# Altium footprint library SMD Mechanical.PcbLib: 17 footprints (part 2 of 2)
Each footprint in its own frame and in the unit in brackets; x right, y up, seen from the top. Pads: shape width x height; smd on the part's side, far side on the other; paste and mask are expansions set on the pad; w line width, h text height; cw(c..) or ccw(c..) is an arc to the next point about the centre after c.
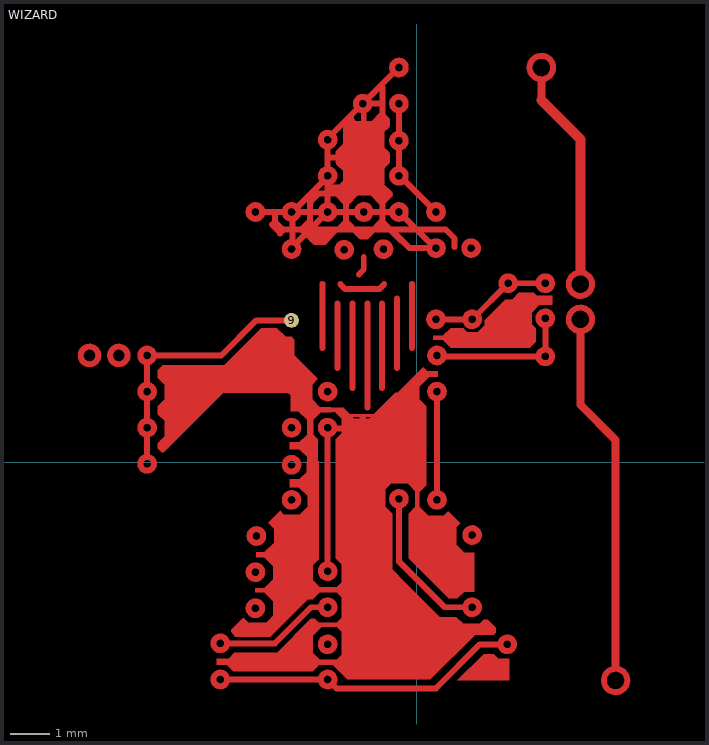
[diagram p1: the footprint, top view; thin cyan lines are the x and y axes]

## WIZARD [mil]
pads (1):
  round 15 smd mask+2: 9(-126.39,143.12)
Top Layer:
  circle w6: c125.58,398.04 r11.81
  circle w6: c200.38,-220.07 r11.81
  circle w6: c164.95,144.1 r11.81
  circle w6: c164.95,179.53 r11.81
  circle w6: c-330.13,107.68 r8.86
  circle w6: c-300.6,107.68 r8.86
  circle w6: c-73.34,214.27 r6.89
  circle w6: c-33.66,214.93 r6.89
  circle w6: c-89.97,288.79 r6.89
  circle w6: c-126.39,214.97 r6.89
  circle w6: c-162.8,252.37 r6.89
  circle w6: c-126.39,252.37 r6.89
  circle w6: c-89.97,252.37 r6.89
  circle w6: c-53.55,252.37 r6.89
  circle w6: c-18.12,252.37 r6.89
  circle w6: c19.28,215.95 r6.89
  circle w6: c54.72,215.95 r6.89
  circle w6: c19.28,252.37 r6.89
  circle w6: c-18.12,288.79 r6.89
  circle w6: c-18.12,324.22 r6.89
  circle w6: c-18.12,361.62 r6.89
  circle w6: c-18.12,398.04 r6.89
  circle w6: c-54.53,361.62 r6.89
  circle w6: c-89.97,325.2 r6.89
  circle w6: c129.52,106.7 r6.89
  circle w6: c129.52,145.09 r6.89
  circle w6: c129.52,180.52 r6.89
  circle w6: c92.12,180.52 r6.89
  circle w6: c55.7,144.1 r6.89
  circle w6: c19.28,144.1 r6.89
  circle w6: c91.13,-183.65 r6.89
  circle w6: c55.7,-146.25 r6.89
  circle w6: c-18.12,-37 r6.89
  circle w6: c20.27,-37.98 r6.89
  circle w6: c55.7,-73.42 r6.89
  circle w6: c-161.82,-74.4 r6.89
  circle w6: c-162.8,-110.82 r6.89
  circle w6: c-162.8,-147.24 r6.89
  circle w6: c-89.97,-109.84 r6.89
  circle w6: c-89.97,-146.25 r6.89
  circle w6: c-126.39,-37.98 r6.89
  circle w6: c-126.39,-2.55 r6.89
  circle w6: c-89.97,-183.65 r6.89
  circle w6: c-89.97,-219.09 r6.89
  circle w6: c-198.24,-219.09 r6.89
  circle w6: c-198.24,-182.67 r6.89
  circle w6: c-126.39,34.85 r6.89
  circle w6: c-89.97,34.85 r6.89
  circle w6: c-89.97,71.27 r6.89
  circle w6: c20.27,71.27 r6.89
  circle w6: c20.27,107.68 r6.89
  circle w6: c-272.05,-1.57 r6.89
  circle w6: c-272.05,34.85 r6.89
  circle w6: c-272.05,71.27 r6.89
  circle w6: c-272.05,107.68 r6.89
  rectangle: -77.17,299.61 -69.3,315.36
  rectangle: -72.25,276.98 -40.76,339.97
  region: -111,1 -111,-10 -119,-18 -128,-18 -128,-25 -119,-25 -110,-34 -110,-45 -118,-53 -134,-53 -138,-49 -150,-61 -144,-67 -144,-81 -154,-91 -162,-91 -162,-96 -154,-96 -145,-105 -145,-118 -154,-127 -163,-127 -163,-131 -154,-131 -145,-140 -145,-155 -152,-162 -170,-162 -175,-157 -187,-169 -187,-171 -183,-176 -148,-176 -110,-138 -105,-138 -98,-131 -86.59,-131 -86.59,-126 -98,-126 -105,-119 -105,-104 -99,-98 -99,1
  region: 21.25,91.94 10.43,91.94 6.49,95.87 -19.1,70.28 -19.1,-21.25 -9.26,-21.25 -1.39,-29.13 -1.39,-44.87 -8.27,-51.76 -8.27,-97.04 32.08,-137.39 40.94,-137.39 47.83,-130.5 57.67,-130.5 57.67,-91.13 47.83,-91.13 39.95,-83.26 39.95,-65.54 43.89,-61.61 32.08,-49.8 31.1,-49.8 27.16,-53.73 11.41,-53.73 2.55,-44.87 2.55,-30.11 9.44,-23.22 9.44,56.5 2.55,63.39 2.55,76.19 12.39,86.03 21.25,86.03
  region: 16.33,127.37 26.17,127.37 34.05,135.24 46.84,135.24 50.78,131.31 61.61,131.31 68.5,138.2 68.5,143.12 89.17,163.79 96.06,163.79 102.95,170.68 117.71,170.68 120.66,167.72 136.41,167.72 136.41,158.87 123.61,158.87 115.74,150.99 115.74,139.18 119.68,135.24 119.68,121.46 113.77,115.56 34.05,115.56 26.17,123.43 16.33,123.43
  region: -19.1,-113.77 23.22,-156.1 39.95,-156.1 46.84,-162.99 63.58,-162.99 67.51,-159.05 71.45,-159.05 79.32,-166.92 79.32,-171.84 77.36,-173.81 58.65,-173.81 13.38,-219.09 -19.1,-219.09
  region: 93.1,-198.42 82.28,-198.42 77.36,-193.5 67.51,-193.5 40.94,-220.07 93.1,-220.07
  region: -202,-198 -189.93,-198 -184,-192 -141,-192 -107,-158 -103,-158 -99,-162 -87,-162 -87,-166 -95.93,-166 -105,-175 -105,-192 -98,-199 -87.59,-199 -87.59,-204 -98.49,-204 -105,-211 -185.03,-210.81 -191.84,-204 -202,-204
  region: -141.15,135.24 -156.9,135.24 -194.3,97.84 -256.31,97.84 -261.23,92.92 -261.23,85.05 -254.34,78.16 -254.34,63.39 -261.23,56.5 -261.23,48.63 -254.34,41.74 -254.34,25.99 -261.23,19.1 -261.23,14.18 -257.29,10.24 -255.32,10.24 -195.28,70.28 -130.32,70.28 -127.37,67.33 -127.37,51.58 -119.5,51.58 -110.64,42.72 -110.64,27.96 -118.51,20.09 -128.35,20.09 -128.35,13.2 -118.51,13.2 -110.64,5.32 -110.64,-9.44 -118.51,-17.32 -128.35,-17.32 -128.35,-23.22 -118.51,-23.22 -110.64,-31.1 -99.81,-31.1 -99.81,23.04 -104.73,27.96 -104.73,42.72 -96.86,50.6 -86.03,50.6 -87.02,51.58 -87.02,55.52 -97.84,55.52 -105.72,63.39 -105.72,78.16 -99.81,84.06 -123.43,107.68 -123.43,123.43 -126.39,126.39 -132.29,126.39
  region: -63.39,28.94 -44.69,28.94 -44.69,39.77 -51.58,39.77 -51.58,45.68 -38.79,45.68 -38.79,34.85 -35.83,34.85 -35.83,48.63 -72.25,48.63 -72.25,34.85 -69.3,34.85 -69.3,45.68 -57.49,45.68 -57.49,39.77 -63.39,39.77
  region: -62.41,15.16 -62.41,4.34 -56.5,4.34 -56.5,-2.55 -68.31,-2.55 -68.31,8.27 -71.27,8.27 -71.27,-5.5 -56.5,-5.5 -56.5,-23.22 -71.27,-23.22 -71.27,-37.98 -68.31,-37.98 -68.31,-27.16 -56.5,-27.16 -56.5,-31.1 -62.41,-31.1 -62.41,-43.89 -43.71,-43.89 -43.71,-31.1 -50.6,-31.1 -50.6,-27.16 -37.8,-27.16 -37.8,-37.98 -34.85,-37.98 -34.85,-23.22 -50.6,-23.22 -50.6,-5.5 -34.85,-5.5 -34.85,8.27 -37.8,8.27 -37.8,-2.55 -50.6,-2.55 -50.6,4.34 -44.69,4.34 -44.69,15.16
  region: -62.41,-57.67 -62.41,-68.5 -56.5,-68.5 -56.5,-75.39 -68.31,-75.39 -68.31,-64.56 -71.27,-64.56 -71.27,-78.34 -56.5,-78.34 -56.5,-96.06 -71.27,-96.06 -71.27,-110.82 -68.31,-110.82 -68.31,-99.99 -56.5,-99.99 -56.5,-103.93 -62.41,-103.93 -62.41,-116.73 -43.71,-116.73 -43.71,-103.93 -50.6,-103.93 -50.6,-99.99 -37.8,-99.99 -37.8,-110.82 -34.85,-110.82 -34.85,-96.06 -50.6,-96.06 -50.6,-78.34 -34.85,-78.34 -34.85,-64.56 -37.8,-64.56 -37.8,-75.39 -50.6,-75.39 -50.6,-68.5 -44.69,-68.5 -44.69,-57.67
  region: -62.41,-130.5 -62.41,-141.33 -56.5,-141.33 -56.5,-148.22 -68.31,-148.22 -68.31,-137.39 -71.27,-137.39 -71.27,-151.17 -56.5,-151.17 -56.5,-168.89 -71.27,-168.89 -71.27,-183.65 -68.31,-183.65 -68.31,-172.83 -56.5,-172.83 -56.5,-176.76 -62.41,-176.76 -62.41,-189.56 -43.71,-189.56 -43.71,-176.76 -50.6,-176.76 -50.6,-172.83 -37.8,-172.83 -37.8,-183.65 -34.85,-183.65 -34.85,-168.89 -50.6,-168.89 -50.6,-151.17 -34.85,-151.17 -34.85,-137.39 -37.8,-137.39 -37.8,-148.22 -50.6,-148.22 -50.6,-141.33 -44.69,-141.33 -44.69,-130.5
  region: -81,-199 -76,-194 -76,-171 -81,-166 -87,-166 -87,-162 -81,-162 -76,-157 -76,-136 -81,-131 -87,-131 -87,-126 -81,-126 -76,-121 -76,-103 -82,-97 -82,23 -76,29 -76,44 -83,51 -87,51 -87,55 -74,55 -63,44 -48,44 -22,70 -19,70 -19,-21 -26,-21 -32,-27 -32,-45 -25,-52 -25,-108 -19,-114 -19,-219 -70,-219 -85,-204 -88,-204 -88,-199
  lines w6: -272.05,5.32 -272.05,25.99 ; -272.05,42.72 -272.05,63.39 ; -272.05,79.14 -272.05,99.81 ; -264.18,107.68 -197.25,107.68 -161.82,143.12 -126.39,143.12 ; -191.35,-219.09 -96.86,-219.09 ; -191.35,-182.67 -143.12,-182.67 -106.7,-146.25 -96.86,-146.25 ; -154.93,252.37 -134.26,252.37 ; -143.12,252.37 -143.12,241.54 -136.23,234.65 29.13,234.65 37.98,225.79 37.98,216.94 ; -135.24,234.65 -143.12,242.53 -146.07,239.57 ; -133.27,234.65 -134.26,234.65 -138.2,230.72 -138.2,231.7 -146.07,239.57 ; -125.4,221.86 -125.4,245.48 ; -121.46,219.89 -121.46,220.87 -94.89,247.45 ; -120.48,257.29 -94.89,282.88 ; -118.51,252.37 -97.84,252.37 ; -116.54,234.65 -115.56,234.65 -105.72,224.81 ; -115.56,233.67 -115.56,235.64 -107.68,243.51 ; -107.68,234.65 -107.68,270.09 ; -106.7,262.21 -106.7,263.2 -98.83,271.07 -81.11,271.07 -71.27,261.23 -60.44,272.05 -45.68,272.05 -34.85,261.23 -34.85,255.32 ; -95,115 -95,180 ; -94.89,230.72 -92.92,230.72 -91.94,229.73 -90.95,229.73 -93.9,226.78 -99.81,226.78 -99.81,228.75 -97.84,230.72 -101.78,230.72 -103.75,228.75 -109.65,228.75 -102.76,221.86 -92.92,221.86 -92.92,222.84 -81.11,234.65 -63.39,234.65 -56.5,227.76 -50.6,227.76 -43.71,234.65 -25.99,234.65 -7.29,215.95 11.41,215.95 ; -89.97,25.99 -89.97,-102.95 -89.97,27.96 ; -89.97,259.26 -89.97,280.91 ; -89.97,296.66 -89.97,317.33 ; -88.98,307.49 -79.14,307.49 ; -86.03,330.13 -59.46,356.7 ; -84,-225 -81,-228 -52,-228 ; -83.08,234.65 -79.14,234.65 -71.27,242.53 ; -83.08,252.37 -61.42,252.37 -60.44,253.35 ; -82.09,33.87 -54.53,33.87 ; -80,95 -80,160 ; -78.16,275.99 -71.27,282.88 -71.27,294.69 -79.14,302.57 -79.14,307.49 ; -77.17,179.53 -72.25,174.61 -37.8,174.61 -32.88,179.53 ; -71.27,235.64 -71.27,267.13 ; -71.27,245.48 -71.27,242.53 ; -71.27,251.39 -71.27,242.53 ; -66.35,349.81 -66.35,344.89 -62.41,340.95 -59.46,340.95 ; -65,75 -65,160 ; -60.44,340.95 -44.69,340.95 -34.85,350.79 ; -59.46,230.72 -71.27,242.53 ; -58.47,189.38 -53.55,194.3 -53.55,207.09 ; -56.5,230.72 -50.6,230.72 ; -53.55,339.97 -53.55,352.76 ; -52.57,-227.95 19.28,-227.95 63.58,-183.65 83.26,-183.65 ; -50,55 -50,160 ; -49.61,366.54 -23.04,393.12 ; -46.66,231.7 -34.85,243.51 -34.85,250.4 ; -46.66,252.37 -25.99,252.37 ; -46.66,361.62 -35.83,361.62 ; -38.79,276.98 -38.79,337.02 -33.87,341.94 -34.85,342.92 -35.83,342.92 -40.76,338 -64.38,338 -66.35,339.97 -70.28,339.97 -71.27,338.98 -71.27,320.28 -79.14,312.41 -79.14,307.49 ; -37.8,269.1 -41.74,273.04 -72.25,273.04 -70.28,273.04 -67.33,270.09 -74.22,270.09 -77.17,273.04 -83.08,273.04 -87.02,276.98 -40.76,276.98 -31.9,268.12 ; -35.83,267.13 -34.85,266.15 -34.85,234.65 ; -35.83,314.38 -35.83,303.55 -34.85,302.57 ; -35,75 -35,160 ; -34.85,246.46 -34.85,242.53 -15.16,222.84 ; -34.85,260.24 -34.85,262.21 -26.98,270.09 -35.83,278.94 -35.83,297.64 -29.93,303.55 -29.93,310.44 -35.83,316.35 -35.83,334.06 -29.93,339.97 -29.93,344.89 -34.85,349.81 -34.85,378.35 ; -20,95 -20,165 ; -18.12,-46.84 -18.12,-99.99 28.14,-146.25 46.84,-146.25 ; -18.12,296.66 -18.12,315.36 ; -18.12,331.11 -18.12,353.75 ; -12.21,246.46 13.38,220.87 14.36,220.87 ; -11.23,282.88 13.38,258.27 13.38,257.29 ; -5,115 -5,180 ; 20.27,-30.11 20.27,64.38 ; 26.17,144.1 48.81,144.1 ; 28.14,107.68 29.13,106.7 121.65,106.7 ; 61.12,149.51 86.71,175.11 ; 100.98,180.52 121.65,180.52 ; 129.52,113.59 129.52,138.2 ; -146.07,239.57 -146.07,239.57 ; -94.89,282.88 -94.89,282.88
  lines w8: 125.58,365.11 125.58,384.26 ; 164.95,129.34 164.95,57.99 200.39,22.55 200.39,-206.29
  lines w10: 125.58,365.11 164.95,325.74 164.95,193.31